# Altium schematic symbol library TB622-098.304M.SchLib: 1 symbol
Pins are listed as number, name and electrical type; pins without a type are passive.

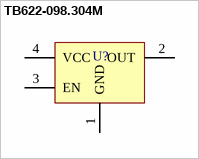
[diagram p0: symbol TB622-098.304M]

## TB622-098.304M
designator U?  (value not drawn)
pins: 1 GND (power), 2 OUT (power), 3 EN (power), 4 VCC (power)